# Altium footprint library SM06B-GHS-TB.PcbLib: 1 footprints
Each footprint in its own frame and in the unit in brackets; x right, y up, seen from the top. Pads: shape width x height; smd on the part's side, far side on the other; paste and mask are expansions set on the pad; w line width, h text height; cw(c..) or ccw(c..) is an arc to the next point about the centre after c.
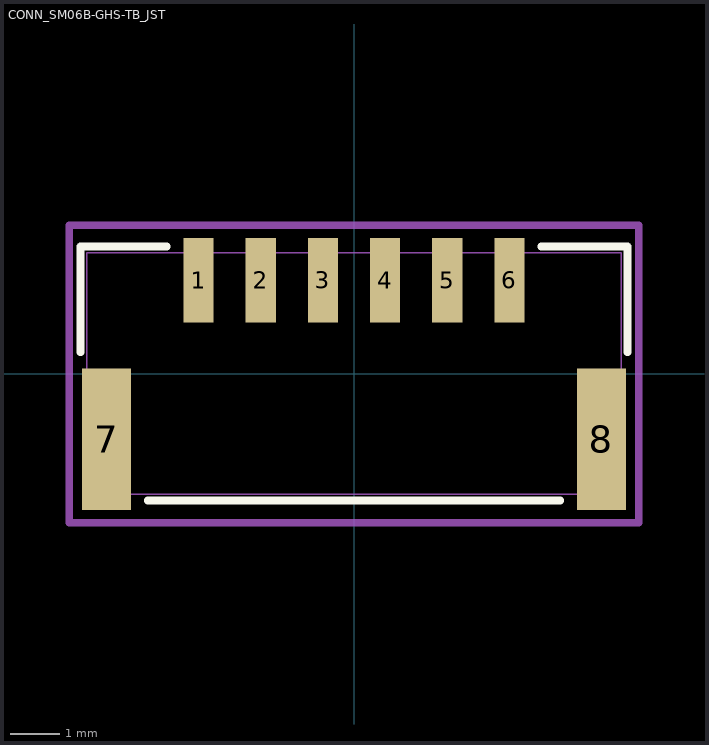
[diagram p0: the footprint, top view; thin cyan lines are the x and y axes]

## CONN_SM06B-GHS-TB_JST [mil]
pads (8):
  rect 24x67 smd paste+0 mask+0: 1(-123.03,73.85) 2(-73.82,73.85) 3(-24.61,73.85) 4(24.61,73.85) 5(73.82,73.85) 6(123.03,73.85)
  rect 39x112 smd paste-56 mask-56: 7(-195.87,-52.14) 8(195.87,-52.14)
Top Overlay:
  lines w6: -216.5,16.91 -216.5,100.5 -148.13,100.5 ; -163.27,-100.5 163.27,-100.5 ; 148.13,100.5 216.5,100.5 216.5,16.91
Mechanical 13:
  lines w1: -211.5,-95.5 -211.5,95.5 211.5,95.5 211.5,-95.5 -211.5,-95.5
Mechanical 15:
  lines w6: -225.37,-118.14 225.37,-118.14 225.37,117.35 -225.37,117.35 -225.37,-118.14
3D body "SM06B-GHS-TB.STEP": height 167.32, standoff 0, extent -211.61,-95 211.61,95.94